# Altium footprint library inductors.PCBLIB: 83 footprints (part 6 of 6)
Each footprint in its own frame and in the unit in brackets; x right, y up, seen from the top. Pads: shape width x height; smd on the part's side, far side on the other; paste and mask are expansions set on the pad; w line width, h text height; cw(c..) or ccw(c..) is an arc to the next point about the centre after c.
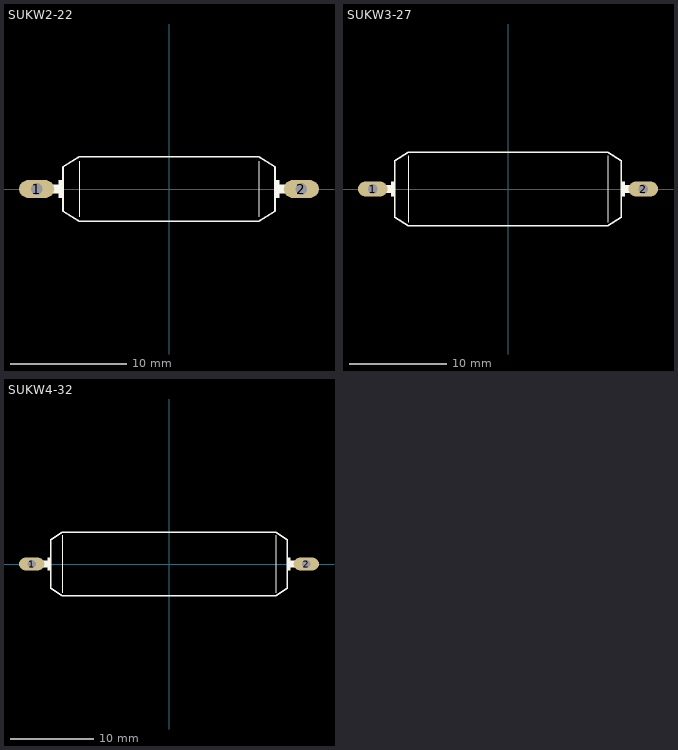
[diagram p5: the footprints below, top view; thin cyan lines are the x and y axes]

## SUKW2-22 [mil]
pads (2):
  oval 120x60 hole 40: 1(-450,0) 2(450,0)
Top Overlay:
  rectangle: 360,-30 375,30
  rectangle: -375,-30 -360,30
  rectangle: 375,-16 397,16
  rectangle: -397,-16 -375,16
  lines w2: -305,-95 -305,95 ; 305,-95 305,95
  lines w6: -360,-75 -360,75 -305,110 305,110 360,75 360,-75 305,-110 -305,-110 -360,-75
Mechanical 16:
  lines w32: -450,0 -400,0 ; 400,0 450,0

## SUKW3-27 [mil]
pads (2):
  oval 120x60 hole 40: 1(-550,0) 2(550,0)
Top Overlay:
  rectangle: 460,-30 475,30
  rectangle: -475,-30 -460,30
  rectangle: 475,-16 497,16
  rectangle: -497,-16 -475,16
  lines w2: -405,-135 -405,135 ; 405,-135 405,135
  lines w6: -460,-115 -460,115 -405,150 405,150 460,115 460,-115 405,-150 -405,-150 -460,-115
Mechanical 16:
  lines w32: -550,0 -500,0 ; 500,0 550,0

## SUKW4-32 [mil]
pads (2):
  oval 120x60 hole 40: 1(-650,0) 2(650,0)
Top Overlay:
  rectangle: 560,-30 575,30
  rectangle: -575,-30 -560,30
  rectangle: 575,-16 597,16
  rectangle: -597,-16 -575,16
  lines w2: -505,-135 -505,135 ; 505,-135 505,135
  lines w6: -560,-115 -560,115 -505,150 505,150 560,115 560,-115 505,-150 -505,-150 -560,-115
Mechanical 16:
  lines w32: -650,0 -600,0 ; 600,0 650,0